# Altium schematic symbol library Induction.SchLib: 2 symbols
Pins are listed as number, name and electrical type; pins without a type are passive.

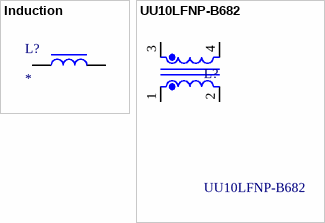
[diagram p0: symbols Induction to UU10LFNP-B682]

## Induction
designator L?
Induction
footprint CDRH4D28
footprint CDRH74
footprint CDRH127
footprint L_1206
footprint L_1210 (Chip Inductor, 2-Leads, Body 3,1x2,5mm, IPC Medium Density)
footprint RCH-110
footprint RCH-895 (8.3mm Max. ?, 9.5mm Max. Height)
footprint SDR0604
footprint MCDR1419NP
pins: 1, 2

## UU10LFNP-B682
designator L?
Noise filter
footprint UU10LFNP
pins: 1, 2, 3, 4